# Altium footprint library TG21_Slave_Device_Amply.PcbLib: 15 footprints
Each footprint in its own frame and in the unit in brackets; x right, y up, seen from the top. Pads: shape width x height; smd on the part's side, far side on the other; paste and mask are expansions set on the pad; w line width, h text height; cw(c..) or ccw(c..) is an arc to the next point about the centre after c.
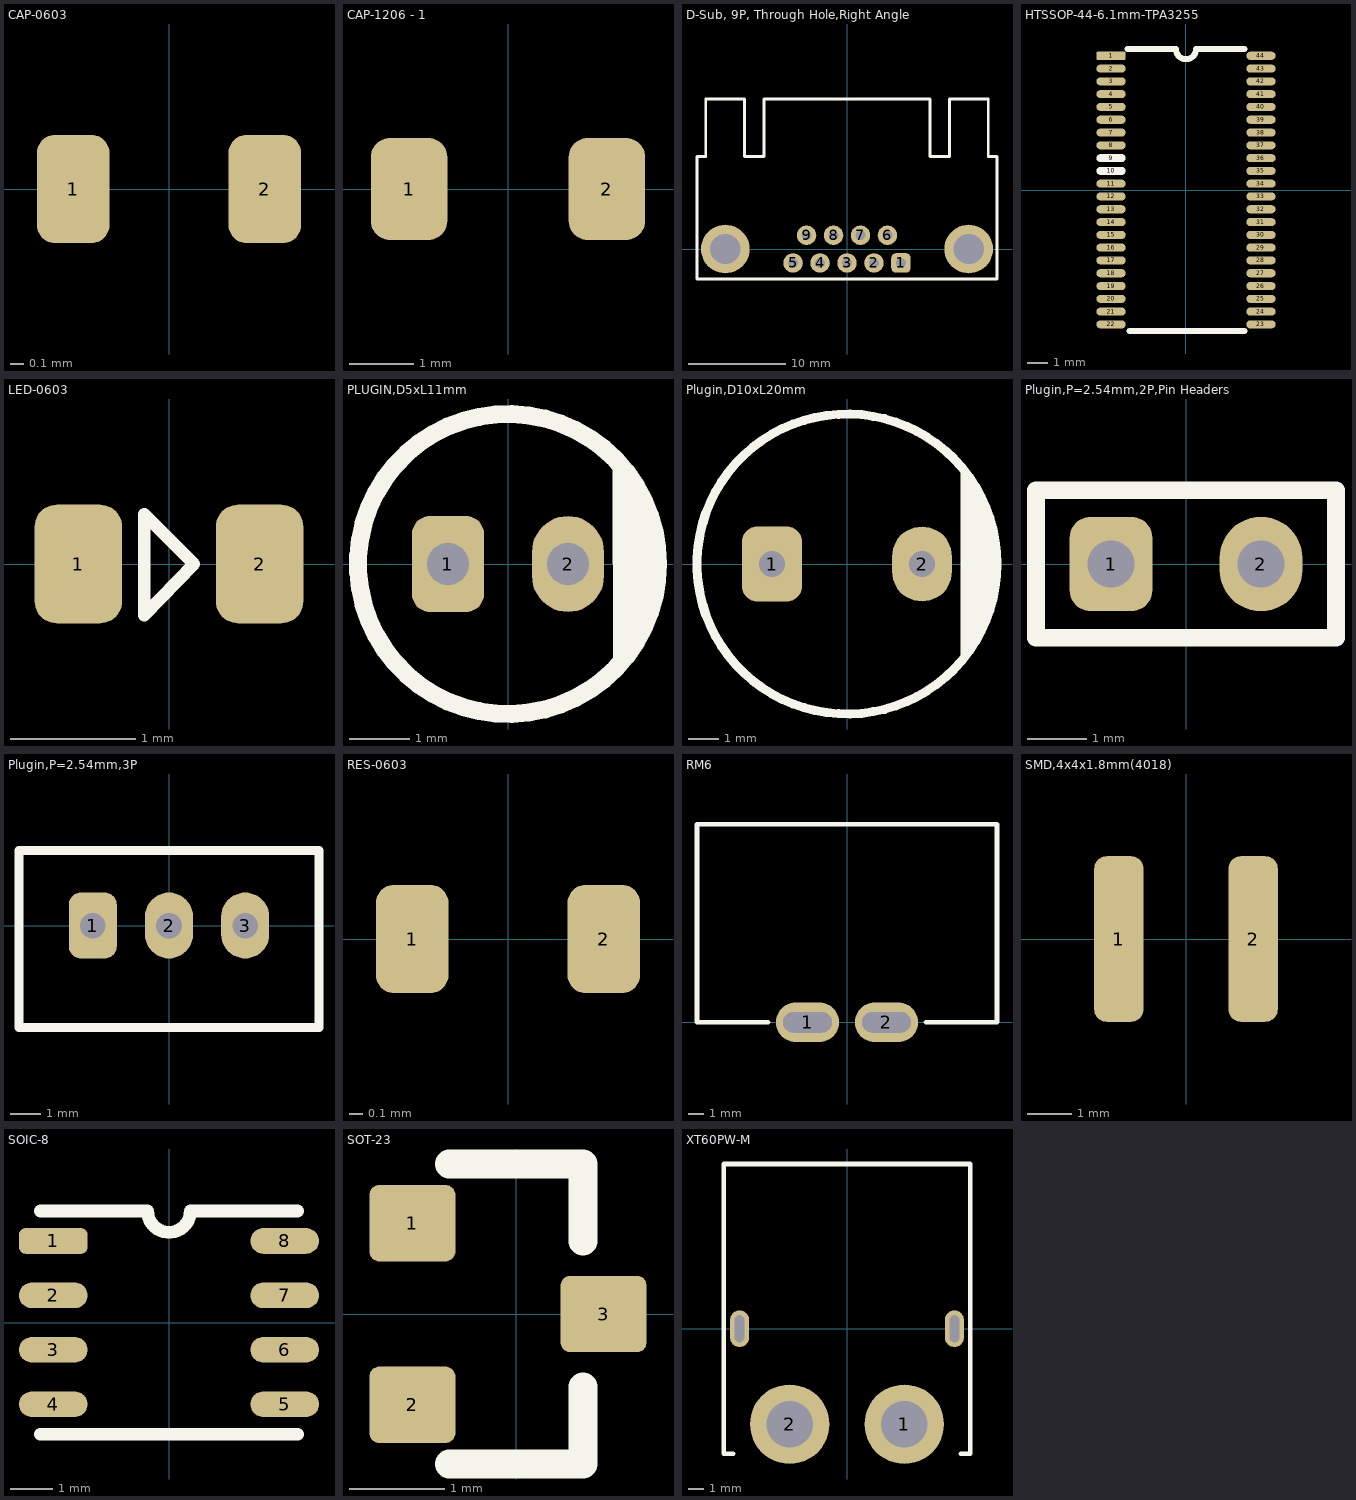
[diagram p0: the footprints below, top view; thin cyan lines are the x and y axes]

## CAP-0603 [mm]
pads (2):
  rrect50% 0.55x0.82 smd: 1(-0.725,0) 2(0.725,0)
3D body "C0603.stp": height 0.8, standoff 0, extent -0.8,-0.4 0.8,0.4

## CAP-1206 - 1 [mm]
pads (2):
  rrect50% 1.2x1.6 smd: 1(-1.55,0) 2(1.55,0)
3D body "C1206D.STEP": height 1.25, standoff 0, extent -1.6,-0.8 1.6,0.8

## D-Sub, 9P, Through Hole,Right Angle [mm]
pads (11):
  rrect50% 2x2 hole 1 mask+0.2: 1(5.54,-1.42)
  round 2 hole 1 mask+0.2: 2(2.77,-1.42) 3(0,-1.42) 4(-2.77,-1.42) 5(-5.54,-1.42) 6(4.155,1.42) 7(1.385,1.42) 8(-1.385,1.42) 9(-4.155,1.42)
  round 5 hole 3.1 mask+0.2: ""(-12.495,0) ""(12.495,0)
Top Overlay:
  lines w0.3: -15.4,9.5 -15.4,-3.08 15.4,-3.08 15.4,9.5 ; -15.4,9.52 -14.505,9.52 -14.505,15.42 -10.505,15.42 -10.505,9.52 -8.5,9.52 -8.5,15.42 8.5,15.42 8.5,9.52 10.505,9.52 10.505,15.42 14.505,15.42 14.505,9.52 15.4,9.52
3D body "DS1037-9M.STEP": height 12.5, standoff -4.4, extent -15.5,-3.08 15.5,15.42

## HTSSOP-44-6.1mm-TPA3255 [mm]
pads (44):
  rrect25% 1.45x0.4 smd: 1(-3.72,6.667)
  oval 1.45x0.4 smd: 2(-3.72,6.032) 3(-3.72,5.397) 4(-3.72,4.763) 5(-3.72,4.127) 6(-3.72,3.492) 7(-3.72,2.857) 8(-3.72,2.222) 11(-3.72,0.318) 12(-3.72,-0.318) 13(-3.72,-0.953) 14(-3.72,-1.587) 15(-3.72,-2.222) 16(-3.72,-2.857) 17(-3.72,-3.492) 18(-3.72,-4.127) 19(-3.72,-4.763) 20(-3.72,-5.397) 21(-3.72,-6.032) 22(-3.72,-6.667) 23(3.72,-6.667) 24(3.72,-6.032) 25(3.72,-5.397) 26(3.72,-4.763) 27(3.72,-4.127) 28(3.72,-3.492) 29(3.72,-2.857) 30(3.72,-2.222) 31(3.72,-1.587) 32(3.72,-0.953) 33(3.72,-0.318) 34(3.72,0.318) 35(3.72,0.953) 36(3.72,1.587) 37(3.72,2.222) 38(3.72,2.857) 39(3.72,3.492) 40(3.72,4.127) 41(3.72,4.763) 42(3.72,5.397) 43(3.72,6.032) 44(3.72,6.667)
  oval 1.45x0.4 on Top Overlay: 9(-3.72,1.587) 10(-3.72,0.953)
Top Overlay:
  lines w0.3: -2.9,7 -0.5,7 ccw(c0,7) 0.5,7 2.9,7 ; -2.8,-7 2.9,-7
3D body "TPA3255DDRV.STEP": height 1.2, standoff 0, extent -4.05,-7 4.05,7

## LED-0603 [mm]
pads (2):
  rrect50% 0.7x0.95 smd paste-0.1: 1(-0.725,0) 2(0.725,0)
Top Overlay:
  lines w0.1: -0.2,-0.412 0.2,0 -0.2,0.4 -0.2,-0.4 ; -0.2,-0.4 -0.2,-0.4
3D body "User Library-LED SMD0603.STEP": height 0.68, standoff 0, extent -0.825,-0.35 0.825,0.375

## PLUGIN,D5xL11mm [mm]
pads (2):
  rrect50% 1.2x1.6 hole 0.7: 1(-1,0)
  oval 1.2x1.6 hole 0.7: 2(1,0)
Top Overlay:
  circle w0.3: c0,0 r2.5
  region: 1.75,1.785 1.75,-1.785 1.928,-1.611 2.208,-1.198 2.401,-0.738 2.5,-0.249 2.5,0 2.5,0.249 2.401,0.738 2.208,1.198 1.928,1.611
3D body "UES1H2R2MDM1TD.STEP": height 12, standoff -19, extent -2.5,-2.5 2.5,2.5

## Plugin,D10xL20mm [mm]
pads (2):
  rrect50% 2x2.5 hole 0.85 mask+0.2: 1(-2.5,0)
  oval 2x2.5 hole 0.85 mask+0.2: 2(2.5,0)
Top Overlay:
  circle w0.3: c0,0 r5
  region: 3.8,3.25 3.8,-3.25 3.944,-3.081 4.201,-2.721 4.424,-2.339 4.614,-1.94 4.767,-1.525 4.883,-1.098 4.961,-0.662 5,-0.221 5,0 5,0.221 4.961,0.662 4.883,1.098 4.767,1.524 4.614,1.94 4.424,2.339 4.201,2.721 3.944,3.081
3D body "User Library-Cap-EL(10x20-5).STEP": height 20, standoff -3.3, extent -5,-5 5.002,5

## Plugin,P=2.54mm,2P,Pin Headers [mm]
pads (2):
  rrect50% 1.4x1.6 hole 0.8: 1(-1.27,0)
  oval 1.4x1.6 hole 0.8: 2(1.27,0)
Top Overlay:
  lines w0.3: -2.54,-1.25 2.54,-1.25 2.54,1.25 -2.54,1.25 -2.54,-1.25
3D body "2-Pin Header - Male - 2.54mm.step": height 8.89, standoff -3.05, extent -2.54,-1.25 2.54,1.29

## Plugin,P=2.54mm,3P [mm]
pads (3):
  rrect50% 1.6x2.2 hole 0.85 mask+0.1: 1(-2.54,0)
  oval 1.6x2.2 hole 0.85 mask+0.1: 2(0,0) 3(2.54,0)
Top Overlay:
  lines w0.3: -5,-3.4 5,-3.4 5,2.5 -5,2.5 -5,-3.4
3D body "JST 2.54X3P.step": height 7, standoff -3, extent -5.04,-3.3 5.04,2.4

## RES-0603 [mm]
pads (2):
  rrect50% 0.55x0.82 smd: 1(-0.725,0) 2(0.725,0)
3D body "ERJ-U03F6800V.STEP": height 0.45, standoff 0, extent -0.8,-0.4 0.8,0.4

## RM6 [mm]
pads (2):
  oval 4x2.5 hole 1.3 slot 3.1 at 0 deg: 1(-2.5,0) 2(2.5,0)
Top Overlay:
  lines w0.3: -5,0 -9.5,0 -9.5,12.55 9.5,12.55 9.5,0 5,0

## SMD,4x4x1.8mm(4018) [mm]
pads (2):
  rrect50% 1.1x3.7 smd: 1(-1.5,0) 2(1.5,0)
3D body "srn4018.stp": height 1.8, standoff 0, extent -2.2,-2 2.2,2

## SOIC-8 [mm]
pads (8):
  rrect50% 1.6x0.6 smd: 1(-2.7,1.905)
  oval 1.6x0.6 smd: 2(-2.7,0.635) 3(-2.7,-0.635) 4(-2.7,-1.905) 5(2.7,-1.905) 6(2.7,-0.635) 7(2.7,0.635) 8(2.7,1.905)
Top Overlay:
  lines w0.3: -3,-2.605 3,-2.605 ; -3,2.605 -0.5,2.605 ccw(c0,2.605) 0.5,2.605 3,2.605
3D body "NE555DT.STEP": height 1.75, standoff 0, extent -3,-2.45 3,2.45

## SOT-23 [mm]
pads (3):
  rrect25% 0.9x0.8 smd: 1(-1.085,0.95) 2(-1.085,-0.95) 3(0.915,0)
Top Overlay:
  lines w0.3: -0.7,-1.57 0.7,-1.57 0.7,-0.762 ; -0.7,1.57 0.7,1.57 0.7,0.762
3D body "SOT-23.STEP": height 1.1, standoff 0, extent -1.25,-1.5 1.25,1.5

## XT60PW-M [mm]
pads (4):
  round 5 hole 2.9 mask+0.1: 1(3.6,-6) 2(-3.6,-6)
  oval 1.2x2.3 hole 0.6 slot 1.7 at 90 deg: ""(-6.75,0) ""(6.75,0)
Top Overlay:
  lines w0.3: -7.15,-7.85 -7.75,-7.85 -7.75,10.35 7.75,10.35 7.75,-7.85 7.15,-7.85
3D body "XT60PW-M.STEP": height 8.4, standoff -2.2, extent -7.75,-7.85 7.75,10.35